# Altium footprint library CAPC1005X55N.PcbLib: 1 footprints
Each footprint in its own frame and in the unit in brackets; x right, y up, seen from the top. Pads: shape width x height; smd on the part's side, far side on the other; paste and mask are expansions set on the pad; w line width, h text height; cw(c..) or ccw(c..) is an arc to the next point about the centre after c.
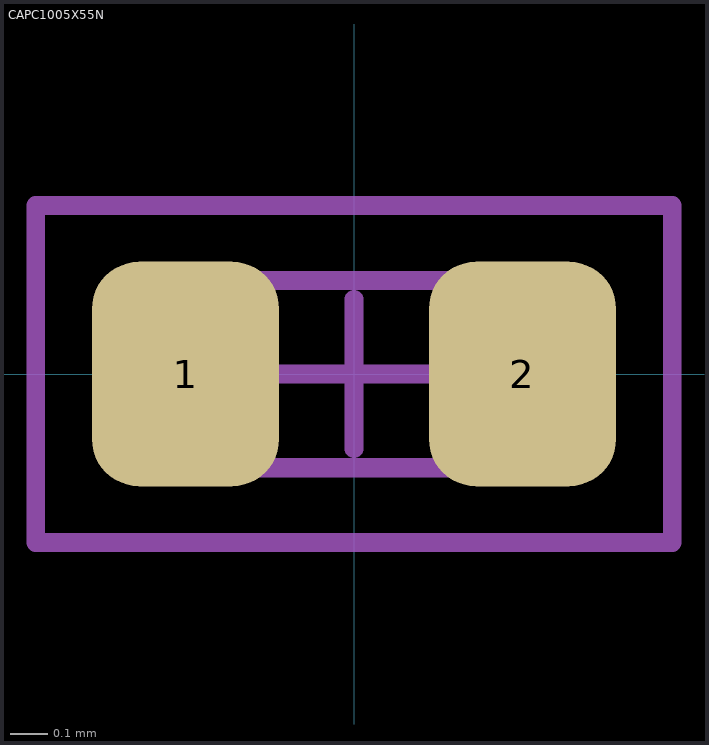
[diagram p0: the footprint, top view; thin cyan lines are the x and y axes]

## CAPC1005X55N [mm] "CAP 0402 NOMINAL"
height 0.55
pads (2):
  rrect50% 0.5x0.6 smd paste+0: 1(-0.45,0) 2(0.45,0)
Mechanical 13:
  lines w0.001: -0.525,-0.275 -0.525,-0.25 -0.525,0.25 -0.525,0.275 -0.5,0.275 0.5,0.275 0.525,0.275 0.525,-0.25 0.525,-0.275 0.5,-0.275 -0.525,-0.275
  lines w0.05: -0.5,-0.25 0.5,-0.25 0.5,0.25 -0.5,0.25 -0.5,-0.25
Mechanical 15:
  lines w0.05: -0.2,0 0.2,0 ; 0,-0.2 0,0.2 ; -0.85,-0.45 -0.85,0.45 0.85,0.45 0.85,-0.45 -0.85,-0.45
3D body: height 0.5, standoff 0.05, extent 0.375,-0.275 0.525,0.275
3D body: height 0.5, standoff 0.05, extent -0.525,-0.275 -0.375,0.275
3D body: height 0.5, standoff 0.05, extent -0.375,-0.275 0.375,0.275